# EAGLE library part TPS62240DRVTG4 (library My Library-adm)
2.25 MHz 300 mA Step Down Converter in 2x2SON/TSOT23 Package
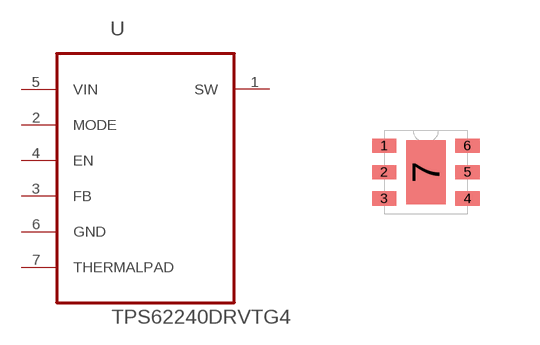
[diagram p33: symbol with the pads of SON65P210X210X80-7N; footprint SON65P210X210X80-7N]

Designator prefix U

## TPS62240DRVTG4 (MPN: TPS62240DRVTG4; OC_FARNELL: 1511851; OC_NEWARK: 59M7215; PACKAGE: SON-6; SUPPLIER: Texas Instruments)  [SON65P210X210X80-7N]
1  SW  out
2  MODE  in
3  FB  in
4  EN  in
5  VIN  pwr
6  GND  pas
7  THERMALPAD  pas

## Footprint SON65P210X210X80-7N (pad centres in mm)
smd 0.61 x 0.356: 1 -1.041,0.66; 2 -1.041,0; 3 -1.041,-0.66; 4 1.041,-0.66; 5 1.041,0; 6 1.041,0.66
smd 0.991 x 1.6: 7 0,0